# Altium integrated library ALTIUM-WE-PD2SR-rev16a.IntLib: 20 symbols
Pins are listed as number, name and electrical type; pins without a type are passive.

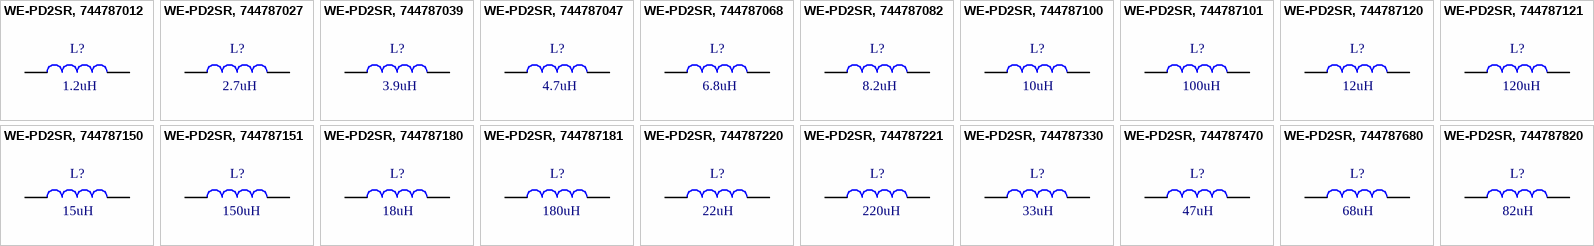
[diagram p0: symbols WE-PD2SR, 744787012 to WE-PD2SR, 744787820]

## WE-PD2SR, 744787012
designator L?  value 1.2uH
WE-PD2SR Shielded Power Inductor, size 7850, 1.2uH; PartNumber: 744787012; PublishedDate: Sep. 2016; Publisher: Wurth Elektronik; ComponentLink1Description: Manufacturer; ComponentLink1URL: http://www.we-online.de; ComponentLink2Description: Datasheet; ComponentLink2URL: http://katalog.we-online.de/pbs/datasheet/744787012.pdf; Size: 7850
footprint WE-PD2SR_7850
pins: 1, 2

## WE-PD2SR, 744787027
designator L?  value 2.7uH
WE-PD2SR Shielded Power Inductor, size 7850, 2.7uH; PartNumber: 744787027; PublishedDate: Sep. 2016; Publisher: Wurth Elektronik; ComponentLink1Description: Manufacturer; ComponentLink1URL: http://www.we-online.de; ComponentLink2Description: Datasheet; ComponentLink2URL: http://katalog.we-online.de/pbs/datasheet/744787027.pdf; Size: 7850
footprint WE-PD2SR_7850
pins: 1, 2

## WE-PD2SR, 744787039
designator L?  value 3.9uH
WE-PD2SR Shielded Power Inductor, size 7850, 3.9uH; PartNumber: 744787039; PublishedDate: Sep. 2016; Publisher: Wurth Elektronik; ComponentLink1Description: Manufacturer; ComponentLink1URL: http://www.we-online.de; ComponentLink2Description: Datasheet; ComponentLink2URL: http://katalog.we-online.de/pbs/datasheet/744787039.pdf; Size: 7850
footprint WE-PD2SR_7850
pins: 1, 2

## WE-PD2SR, 744787047
designator L?  value 4.7uH
WE-PD2SR Shielded Power Inductor, size 7850, 4.7uH; PartNumber: 744787047; PublishedDate: Sep. 2016; Publisher: Wurth Elektronik; ComponentLink1Description: Manufacturer; ComponentLink1URL: http://www.we-online.de; ComponentLink2Description: Datasheet; ComponentLink2URL: http://katalog.we-online.de/pbs/datasheet/744787047.pdf; Size: 7850
footprint WE-PD2SR_7850
pins: 1, 2

## WE-PD2SR, 744787068
designator L?  value 6.8uH
WE-PD2SR Shielded Power Inductor, size 7850, 6.8uH; PartNumber: 744787068; PublishedDate: Sep. 2016; Publisher: Wurth Elektronik; ComponentLink1Description: Manufacturer; ComponentLink1URL: http://www.we-online.de; ComponentLink2Description: Datasheet; ComponentLink2URL: http://katalog.we-online.de/pbs/datasheet/744787068.pdf; Size: 7850
footprint WE-PD2SR_7850
pins: 1, 2

## WE-PD2SR, 744787082
designator L?  value 8.2uH
WE-PD2SR Shielded Power Inductor, size 7850, 8.2uH; PartNumber: 744787082; PublishedDate: Sep. 2016; Publisher: Wurth Elektronik; ComponentLink1Description: Manufacturer; ComponentLink1URL: http://www.we-online.de; ComponentLink2Description: Datasheet; ComponentLink2URL: http://katalog.we-online.de/pbs/datasheet/744787082.pdf; Size: 7850
footprint WE-PD2SR_7850
pins: 1, 2

## WE-PD2SR, 744787100
designator L?  value 10uH
WE-PD2SR Shielded Power Inductor, size 7850, 10uH; PartNumber: 744787100; PublishedDate: Sep. 2016; Publisher: Wurth Elektronik; ComponentLink1Description: Manufacturer; ComponentLink1URL: http://www.we-online.de; ComponentLink2Description: Datasheet; ComponentLink2URL: http://katalog.we-online.de/pbs/datasheet/744787100.pdf; Size: 7850
footprint WE-PD2SR_7850
pins: 1, 2

## WE-PD2SR, 744787101
designator L?  value 100uH
WE-PD2SR Shielded Power Inductor, size 7850, 100uH; PartNumber: 744787101; PublishedDate: Sep. 2016; Publisher: Wurth Elektronik; ComponentLink1Description: Manufacturer; ComponentLink1URL: http://www.we-online.de; ComponentLink2Description: Datasheet; ComponentLink2URL: http://katalog.we-online.de/pbs/datasheet/744787101.pdf; Size: 7850
footprint WE-PD2SR_7850
pins: 1, 2

## WE-PD2SR, 744787120
designator L?  value 12uH
WE-PD2SR Shielded Power Inductor, size 7850, 12uH; PartNumber: 744787120; PublishedDate: Sep. 2016; Publisher: Wurth Elektronik; ComponentLink1Description: Manufacturer; ComponentLink1URL: http://www.we-online.de; ComponentLink2Description: Datasheet; ComponentLink2URL: http://katalog.we-online.de/pbs/datasheet/744787120.pdf; Size: 7850
footprint WE-PD2SR_7850
pins: 1, 2

## WE-PD2SR, 744787121
designator L?  value 120uH
WE-PD2SR Shielded Power Inductor, size 7850, 120uH; PartNumber: 744787121; PublishedDate: Sep. 2016; Publisher: Wurth Elektronik; ComponentLink1Description: Manufacturer; ComponentLink1URL: http://www.we-online.de; ComponentLink2Description: Datasheet; ComponentLink2URL: http://katalog.we-online.de/pbs/datasheet/744787121.pdf; Size: 7850
footprint WE-PD2SR_7850
pins: 1, 2

## WE-PD2SR, 744787150
designator L?  value 15uH
WE-PD2SR Shielded Power Inductor, size 7850, 15uH; PartNumber: 744787150; PublishedDate: Sep. 2016; Publisher: Wurth Elektronik; ComponentLink1Description: Manufacturer; ComponentLink1URL: http://www.we-online.de; ComponentLink2Description: Datasheet; ComponentLink2URL: http://katalog.we-online.de/pbs/datasheet/744787150.pdf; Size: 7850
footprint WE-PD2SR_7850
pins: 1, 2

## WE-PD2SR, 744787151
designator L?  value 150uH
WE-PD2SR Shielded Power Inductor, size 7850, 150uH; PartNumber: 744787151; PublishedDate: Sep. 2016; Publisher: Wurth Elektronik; ComponentLink1Description: Manufacturer; ComponentLink1URL: http://www.we-online.de; ComponentLink2Description: Datasheet; ComponentLink2URL: http://katalog.we-online.de/pbs/datasheet/744787151.pdf; Size: 7850
footprint WE-PD2SR_7850
pins: 1, 2

## WE-PD2SR, 744787180
designator L?  value 18uH
WE-PD2SR Shielded Power Inductor, size 7850, 18uH; PartNumber: 744787180; PublishedDate: Sep. 2016; Publisher: Wurth Elektronik; ComponentLink1Description: Manufacturer; ComponentLink1URL: http://www.we-online.de; ComponentLink2Description: Datasheet; ComponentLink2URL: http://katalog.we-online.de/pbs/datasheet/744787180.pdf; Size: 7850
footprint WE-PD2SR_7850
pins: 1, 2

## WE-PD2SR, 744787181
designator L?  value 180uH
WE-PD2SR Shielded Power Inductor, size 7850, 180uH; PartNumber: 744787181; PublishedDate: Sep. 2016; Publisher: Wurth Elektronik; ComponentLink1Description: Manufacturer; ComponentLink1URL: http://www.we-online.de; ComponentLink2Description: Datasheet; ComponentLink2URL: http://katalog.we-online.de/pbs/datasheet/744787181.pdf; Size: 7850
footprint WE-PD2SR_7850
pins: 1, 2

## WE-PD2SR, 744787220
designator L?  value 22uH
WE-PD2SR Shielded Power Inductor, size 7850, 22uH; PartNumber: 744787220; PublishedDate: Sep. 2016; Publisher: Wurth Elektronik; ComponentLink1Description: Manufacturer; ComponentLink1URL: http://www.we-online.de; ComponentLink2Description: Datasheet; ComponentLink2URL: http://katalog.we-online.de/pbs/datasheet/744787220.pdf; Size: 7850
footprint WE-PD2SR_7850
pins: 1, 2

## WE-PD2SR, 744787221
designator L?  value 220uH
WE-PD2SR Shielded Power Inductor, size 7850, 220uH; PartNumber: 744787221; PublishedDate: Sep. 2016; Publisher: Wurth Elektronik; ComponentLink1Description: Manufacturer; ComponentLink1URL: http://www.we-online.de; ComponentLink2Description: Datasheet; ComponentLink2URL: http://katalog.we-online.de/pbs/datasheet/744787221.pdf; Size: 7850
footprint WE-PD2SR_7850
pins: 1, 2

## WE-PD2SR, 744787330
designator L?  value 33uH
WE-PD2SR Shielded Power Inductor, size 7850, 33uH; PartNumber: 744787330; PublishedDate: Sep. 2016; Publisher: Wurth Elektronik; ComponentLink1Description: Manufacturer; ComponentLink1URL: http://www.we-online.de; ComponentLink2Description: Datasheet; ComponentLink2URL: http://katalog.we-online.de/pbs/datasheet/744787330.pdf; Size: 7850
footprint WE-PD2SR_7850
pins: 1, 2

## WE-PD2SR, 744787470
designator L?  value 47uH
WE-PD2SR Shielded Power Inductor, size 7850, 47uH; PartNumber: 744787470; PublishedDate: Sep. 2016; Publisher: Wurth Elektronik; ComponentLink1Description: Manufacturer; ComponentLink1URL: http://www.we-online.de; ComponentLink2Description: Datasheet; ComponentLink2URL: http://katalog.we-online.de/pbs/datasheet/744787470.pdf; Size: 7850
footprint WE-PD2SR_7850
pins: 1, 2

## WE-PD2SR, 744787680
designator L?  value 68uH
WE-PD2SR Shielded Power Inductor, size 7850, 68uH; PartNumber: 744787680; PublishedDate: Sep. 2016; Publisher: Wurth Elektronik; ComponentLink1Description: Manufacturer; ComponentLink1URL: http://www.we-online.de; ComponentLink2Description: Datasheet; ComponentLink2URL: http://katalog.we-online.de/pbs/datasheet/744787680.pdf; Size: 7850
footprint WE-PD2SR_7850
pins: 1, 2

## WE-PD2SR, 744787820
designator L?  value 82uH
WE-PD2SR Shielded Power Inductor, size 7850, 82uH; PartNumber: 744787820; PublishedDate: Sep. 2016; Publisher: Wurth Elektronik; ComponentLink1Description: Manufacturer; ComponentLink1URL: http://www.we-online.de; ComponentLink2Description: Datasheet; ComponentLink2URL: http://katalog.we-online.de/pbs/datasheet/744787820.pdf; Size: 7850
footprint WE-PD2SR_7850
pins: 1, 2